# Altium schematic symbol library PMEG3020EP_115.SchLib: 1 symbol
Pins are listed as number, name and electrical type; pins without a type are passive.

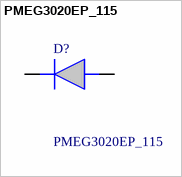
[diagram p0: symbol PMEG3020EP_115]

## PMEG3020EP_115
designator D?
Schottky Diodes & Rectifiers SCHOTTKY RECT 30V 2A; Manufacturer_Name: Nexperia; Manufacturer_Part_Number: PMEG3020EP,115; Geometry.Height: 1.1mm; Mouser Part Number: 771-PMEG3020EP115; Mouser Price/Stock: https://www.mouser.co.uk/ProductDetail/Nexperia/PMEG3020EP115?qs=GcY6OjH1zdnlY%252B06tUqEyw%3D%3D; Arrow Part Number: PMEG3020EP,115; Arrow Price/Stock: https://www.arrow.com/en/products/pmeg3020ep115/nexperia?region=nac; Datasheet Link: https://assets.nexperia.com/documents/data-sheet/PMEG3020EP.pdf
footprint SODFL4725X110N
pins: 1 K, 2 A